# Altium footprint library PQFP.PcbLib: 12 footprints
Each footprint in its own frame and in the unit in brackets; x right, y up, seen from the top. Pads: shape width x height; smd on the part's side, far side on the other; paste and mask are expansions set on the pad; w line width, h text height; cw(c..) or ccw(c..) is an arc to the next point about the centre after c.
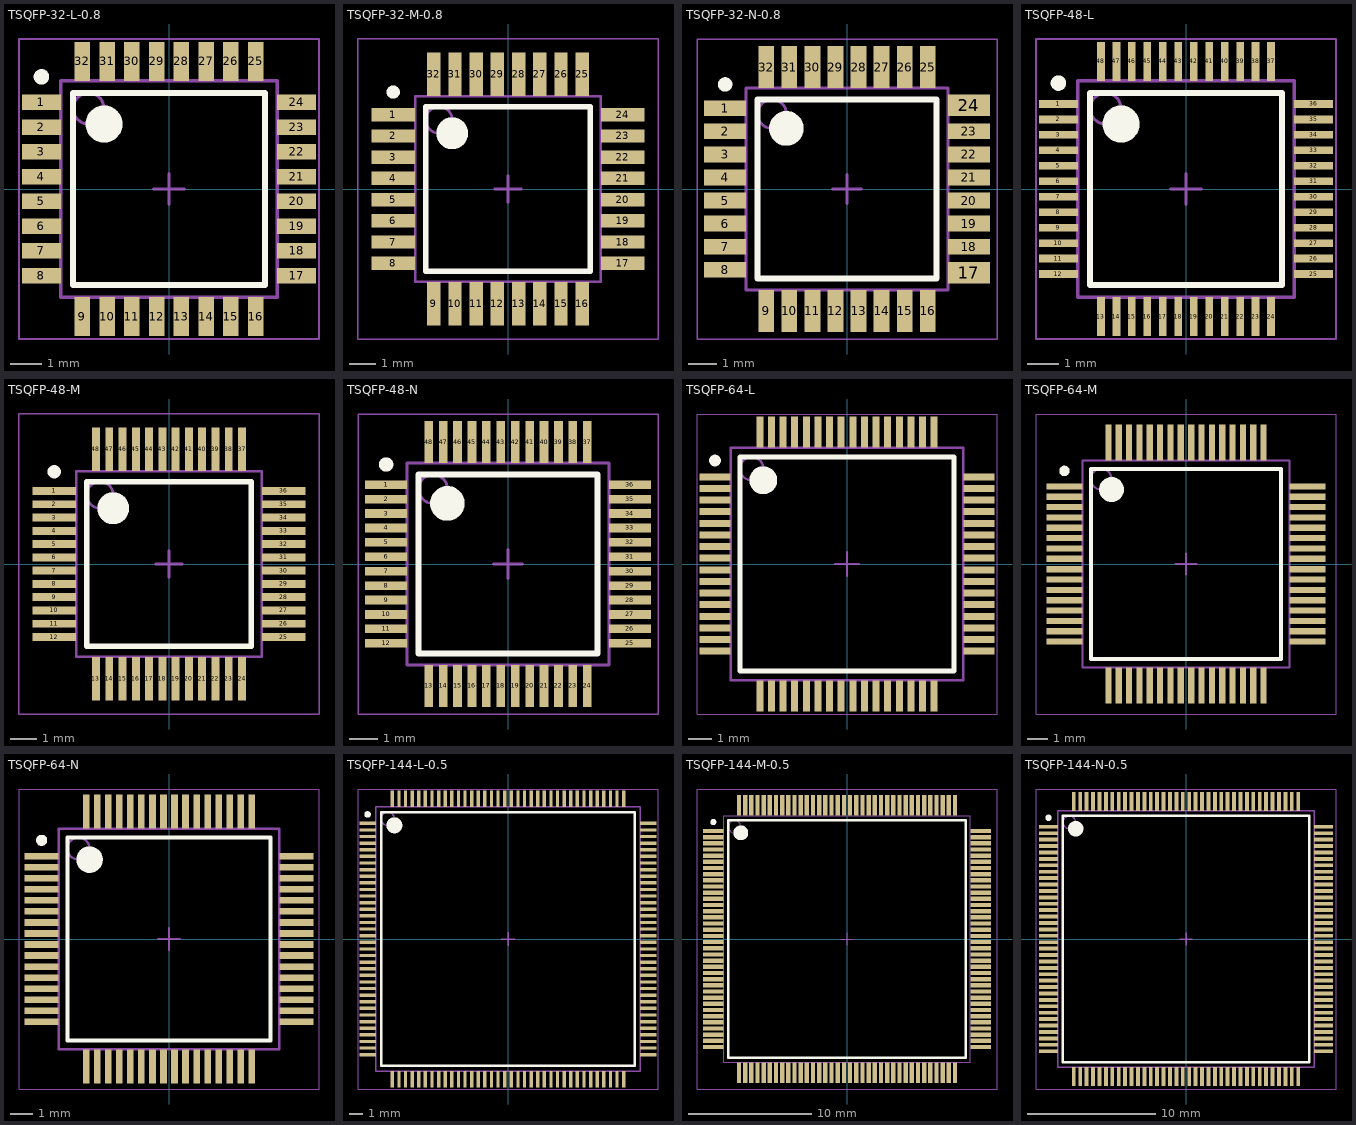
[diagram p0: the footprints below, top view; thin cyan lines are the x and y axes]

## TSQFP-32-L-0.8 [mm] "TQFP, 32-Leads, Body 7.00x7.00mm, Pitch 0.80mm, IPC High Density"
height 1.6
pads (32):
  rect 1.25x0.5 smd: 1(-4.125,2.8) 2(-4.125,2) 3(-4.125,1.2) 4(-4.125,0.4) 5(-4.125,-0.4) 6(-4.125,-1.2) 7(-4.125,-2) 8(-4.125,-2.8) 17(4.125,-2.8) 18(4.125,-2) 19(4.125,-1.2) 20(4.125,-0.4) 21(4.125,0.4) 22(4.125,1.2) 23(4.125,2) 24(4.125,2.8)
  rect 0.5x1.25 smd: 9(-2.8,-4.125) 10(-2,-4.125) 11(-1.2,-4.125) 12(-0.4,-4.125) 13(0.4,-4.125) 14(1.2,-4.125) 15(2,-4.125) 16(2.8,-4.125) 25(2.8,4.125) 26(2,4.125) 27(1.2,4.125) 28(0.4,4.125) 29(-0.4,4.125) 30(-1.2,4.125) 31(-2,4.125) 32(-2.8,4.125)
Top Overlay:
  circle w0.6: c-2.1,2.1 r0.3
  circle w0.25: c-4.125,3.625 r0.125
  lines w0.2: -3.1,-3.1 3.1,-3.1 3.1,3.1 -3.1,3.1 -3.1,-3.1
Mechanical 13:
  circle w0.1: c-2.6,2.6 r0.5
  lines w0.1: -3.5,-3.5 3.5,-3.5 3.5,3.5 -3.5,3.5 -3.5,-3.5
Mechanical 15:
  lines w0.05: -4.85,-4.85 4.85,-4.85 4.85,4.85 -4.85,4.85 -4.85,-4.85
  lines w0.1: -0.5,0 0.5,0 ; 0,-0.5 0,0.5
3D body "TQFP80P900X900X160-32L.step": height 1.6, standoff 0, extent -4.5,-4.5 4.5,4.5

## TSQFP-32-M-0.8 [mm] "TQFP, 32-Leads, Body 7.00x7.00mm, Pitch 0.80mm, IPC Low Density"
height 1.6
pads (32):
  rect 1.65x0.5 smd: 1(-4.325,2.8) 2(-4.325,2) 3(-4.325,1.2) 4(-4.325,0.4) 5(-4.325,-0.4) 6(-4.325,-1.2) 7(-4.325,-2) 8(-4.325,-2.8) 17(4.325,-2.8) 18(4.325,-2) 19(4.325,-1.2) 20(4.325,-0.4) 21(4.325,0.4) 22(4.325,1.2) 23(4.325,2) 24(4.325,2.8)
  rect 0.5x1.65 smd: 9(-2.8,-4.325) 10(-2,-4.325) 11(-1.2,-4.325) 12(-0.4,-4.325) 13(0.4,-4.325) 14(1.2,-4.325) 15(2,-4.325) 16(2.8,-4.325) 25(2.8,4.325) 26(2,4.325) 27(1.2,4.325) 28(0.4,4.325) 29(-0.4,4.325) 30(-1.2,4.325) 31(-2,4.325) 32(-2.8,4.325)
Top Overlay:
  circle w0.25: c-4.325,3.65 r0.125
  circle w0.6: c-2.1,2.1 r0.3
  lines w0.2: -3.1,-3.1 -3.1,3.1 3.1,3.1 3.1,-3.1 -3.1,-3.1
Mechanical 13:
  circle w0.1: c-2.6,2.6 r0.5
  lines w0.1: -3.5,-3.5 -3.5,3.5 3.5,3.5 3.5,-3.5 -3.5,-3.5
Mechanical 15:
  lines w0.05: -5.65,-5.65 -5.65,5.65 5.65,5.65 5.65,-5.65 -5.65,-5.65
  lines w0.1: -0.5,0 0.5,0 ; 0,-0.5 0,0.5
3D body "TQFP80P900X900X160-32M.step": height 1.6, standoff 0, extent -4.5,-4.5 4.5,4.5

## TSQFP-32-N-0.8 [mm] "TQFP, 32-Leads, Body 7.00x7.00mm, Pitch 0.80mm, IPC Medium Density"
height 1.6
pads (32):
  rect 1.45x0.55 smd: 1(-4.225,2.8) 2(-4.225,2) 3(-4.225,1.2) 4(-4.225,0.4) 5(-4.225,-0.4) 6(-4.225,-1.2) 7(-4.225,-2) 8(-4.225,-2.8) 18(4.225,-2) 19(4.225,-1.2) 20(4.225,-0.4) 21(4.225,0.4) 22(4.225,1.2) 23(4.225,2)
  rect 0.55x1.45 smd: 9(-2.8,-4.225) 10(-2,-4.225) 11(-1.2,-4.225) 12(-0.4,-4.225) 13(0.4,-4.225) 14(1.2,-4.225) 15(2,-4.225) 16(2.8,-4.225) 25(2.8,4.225) 26(2,4.225) 27(1.2,4.225) 28(0.4,4.225) 29(-0.4,4.225) 30(-1.2,4.225) 31(-2,4.225) 32(-2.8,4.225)
  rect 1.45x0.75 smd: 17(4.225,-2.9) 24(4.225,2.9)
Top Overlay:
  circle w0.6: c-2.1,2.1 r0.3
  circle w0.25: c-4.225,3.625 r0.125
  lines w0.2: -3.1,-3.1 3.1,-3.1 3.1,3.1 -3.1,3.1 -3.1,-3.1
Mechanical 13:
  circle w0.1: c-2.6,2.6 r0.5
  lines w0.1: -3.5,-3.5 3.5,-3.5 3.5,3.5 -3.5,3.5 -3.5,-3.5
Mechanical 15:
  lines w0.05: -5.2,-5.2 5.2,-5.2 5.2,5.2 -5.2,5.2 -5.2,-5.2
  lines w0.1: -0.5,0 0.5,0 ; 0,-0.5 0,0.5
3D body "TQFP80P900X900X160-32N.step": height 1.6, standoff 0, extent -4.5,-4.5 4.5,4.5

## TSQFP-48-L [mm] "TSQFP, 48-Leads, Body 7.00x7.00mm, Pitch 0.50mm, IPC High Density"
height 1.6
pads (48):
  rect 1.25x0.25 smd: 1(-4.125,2.75) 2(-4.125,2.25) 3(-4.125,1.75) 4(-4.125,1.25) 5(-4.125,0.75) 6(-4.125,0.25) 7(-4.125,-0.25) 8(-4.125,-0.75) 9(-4.125,-1.25) 10(-4.125,-1.75) 11(-4.125,-2.25) 12(-4.125,-2.75) 25(4.125,-2.75) 26(4.125,-2.25) 27(4.125,-1.75) 28(4.125,-1.25) 29(4.125,-0.75) 30(4.125,-0.25) 31(4.125,0.25) 32(4.125,0.75) 33(4.125,1.25) 34(4.125,1.75) 35(4.125,2.25) 36(4.125,2.75)
  rect 0.25x1.25 smd: 13(-2.75,-4.125) 14(-2.25,-4.125) 15(-1.75,-4.125) 16(-1.25,-4.125) 17(-0.75,-4.125) 18(-0.25,-4.125) 19(0.25,-4.125) 20(0.75,-4.125) 21(1.25,-4.125) 22(1.75,-4.125) 23(2.25,-4.125) 24(2.75,-4.125) 37(2.75,4.125) 38(2.25,4.125) 39(1.75,4.125) 40(1.25,4.125) 41(0.75,4.125) 42(0.25,4.125) 43(-0.25,4.125) 44(-0.75,4.125) 45(-1.25,4.125) 46(-1.75,4.125) 47(-2.25,4.125) 48(-2.75,4.125)
Top Overlay:
  circle w0.6: c-2.1,2.1 r0.3
  circle w0.25: c-4.125,3.425 r0.125
  lines w0.2: -3.1,-3.1 3.1,-3.1 3.1,3.1 -3.1,3.1 -3.1,-3.1
Mechanical 13:
  circle w0.1: c-2.6,2.6 r0.5
  lines w0.1: -3.5,-3.5 3.5,-3.5 3.5,3.5 -3.5,3.5 -3.5,-3.5
Mechanical 15:
  lines w0.05: -4.85,-4.85 4.85,-4.85 4.85,4.85 -4.85,4.85 -4.85,-4.85
  lines w0.1: -0.5,0 0.5,0 ; 0,-0.5 0,0.5
3D body "TSQFP-48-L.step": height 1.6, standoff 0, extent -4.5,-4.5 4.5,4.5

## TSQFP-48-M [mm] "TSQFP, 48-Leads, Body 7.00x7.00mm, Pitch 0.50mm, IPC Low Density"
height 1.6
pads (48):
  rect 1.65x0.3 smd: 1(-4.325,2.75) 2(-4.325,2.25) 3(-4.325,1.75) 4(-4.325,1.25) 5(-4.325,0.75) 6(-4.325,0.25) 7(-4.325,-0.25) 8(-4.325,-0.75) 9(-4.325,-1.25) 10(-4.325,-1.75) 11(-4.325,-2.25) 12(-4.325,-2.75) 25(4.325,-2.75) 26(4.325,-2.25) 27(4.325,-1.75) 28(4.325,-1.25) 29(4.325,-0.75) 30(4.325,-0.25) 31(4.325,0.25) 32(4.325,0.75) 33(4.325,1.25) 34(4.325,1.75) 35(4.325,2.25) 36(4.325,2.75)
  rect 0.3x1.65 smd: 13(-2.75,-4.325) 14(-2.25,-4.325) 15(-1.75,-4.325) 16(-1.25,-4.325) 17(-0.75,-4.325) 18(-0.25,-4.325) 19(0.25,-4.325) 20(0.75,-4.325) 21(1.25,-4.325) 22(1.75,-4.325) 23(2.25,-4.325) 24(2.75,-4.325) 37(2.75,4.325) 38(2.25,4.325) 39(1.75,4.325) 40(1.25,4.325) 41(0.75,4.325) 42(0.25,4.325) 43(-0.25,4.325) 44(-0.75,4.325) 45(-1.25,4.325) 46(-1.75,4.325) 47(-2.25,4.325) 48(-2.75,4.325)
Top Overlay:
  circle w0.6: c-2.1,2.1 r0.3
  circle w0.25: c-4.325,3.475 r0.125
  lines w0.2: -3.1,-3.1 3.1,-3.1 3.1,3.1 -3.1,3.1 -3.1,-3.1
Mechanical 13:
  circle w0.1: c-2.6,2.6 r0.5
  lines w0.1: -3.5,-3.5 3.5,-3.5 3.5,3.5 -3.5,3.5 -3.5,-3.5
Mechanical 15:
  lines w0.05: -5.65,-5.65 5.65,-5.65 5.65,5.65 -5.65,5.65 -5.65,-5.65
  lines w0.1: -0.5,0 0.5,0 ; 0,-0.5 0,0.5
3D body "TSQFP-48-M.step": height 1.6, standoff 0, extent -4.5,-4.5 4.5,4.5

## TSQFP-48-N [mm] "TSQFP, 48-Leads, Body 7.00x7.00mm, Pitch 0.50mm, IPC Medium Density"
height 1.6
pads (48):
  rect 1.45x0.3 smd: 1(-4.225,2.75) 2(-4.225,2.25) 3(-4.225,1.75) 4(-4.225,1.25) 5(-4.225,0.75) 6(-4.225,0.25) 7(-4.225,-0.25) 8(-4.225,-0.75) 9(-4.225,-1.25) 10(-4.225,-1.75) 11(-4.225,-2.25) 12(-4.225,-2.75) 25(4.225,-2.75) 26(4.225,-2.25) 27(4.225,-1.75) 28(4.225,-1.25) 29(4.225,-0.75) 30(4.225,-0.25) 31(4.225,0.25) 32(4.225,0.75) 33(4.225,1.25) 34(4.225,1.75) 35(4.225,2.25) 36(4.225,2.75)
  rect 0.3x1.45 smd: 13(-2.75,-4.225) 14(-2.25,-4.225) 15(-1.75,-4.225) 16(-1.25,-4.225) 17(-0.75,-4.225) 18(-0.25,-4.225) 19(0.25,-4.225) 20(0.75,-4.225) 21(1.25,-4.225) 22(1.75,-4.225) 23(2.25,-4.225) 24(2.75,-4.225) 37(2.75,4.225) 38(2.25,4.225) 39(1.75,4.225) 40(1.25,4.225) 41(0.75,4.225) 42(0.25,4.225) 43(-0.25,4.225) 44(-0.75,4.225) 45(-1.25,4.225) 46(-1.75,4.225) 47(-2.25,4.225) 48(-2.75,4.225)
Top Overlay:
  circle w0.6: c-2.1,2.1 r0.3
  circle w0.25: c-4.225,3.45 r0.125
  lines w0.2: -3.1,-3.1 3.1,-3.1 3.1,3.1 -3.1,3.1 -3.1,-3.1
Mechanical 13:
  circle w0.1: c-2.6,2.6 r0.5
  lines w0.1: -3.5,-3.5 3.5,-3.5 3.5,3.5 -3.5,3.5 -3.5,-3.5
Mechanical 15:
  lines w0.05: -5.2,-5.2 5.2,-5.2 5.2,5.2 -5.2,5.2 -5.2,-5.2
  lines w0.1: -0.5,0 0.5,0 ; 0,-0.5 0,0.5
3D body "TSQFP-48-N.step": height 1.6, standoff 0, extent -4.5,-4.5 4.5,4.5

## TSQFP-64-L [mm] "TSQFP, 64-Leads, Body 10,00x10,00mm, Pitch 0,50mm, IPC High Density"
height 1.6
pads (64):
  rect 1.35x0.3 smd: 1(-5.675,3.75) 2(-5.675,3.25) 3(-5.675,2.75) 4(-5.675,2.25) 5(-5.675,1.75) 6(-5.675,1.25) 7(-5.675,0.75) 8(-5.675,0.25) 9(-5.675,-0.25) 10(-5.675,-0.75) 11(-5.675,-1.25) 12(-5.675,-1.75) 13(-5.675,-2.25) 14(-5.675,-2.75) 15(-5.675,-3.25) 16(-5.675,-3.75) 33(5.675,-3.75) 34(5.675,-3.25) 35(5.675,-2.75) 36(5.675,-2.25) 37(5.675,-1.75) 38(5.675,-1.25) 39(5.675,-0.75) 40(5.675,-0.25) 41(5.675,0.25) 42(5.675,0.75) 43(5.675,1.25) 44(5.675,1.75) 45(5.675,2.25) 46(5.675,2.75) 47(5.675,3.25) 48(5.675,3.75)
  rect 0.3x1.35 smd: 17(-3.75,-5.675) 18(-3.25,-5.675) 19(-2.75,-5.675) 20(-2.25,-5.675) 21(-1.75,-5.675) 22(-1.25,-5.675) 23(-0.75,-5.675) 24(-0.25,-5.675) 25(0.25,-5.675) 26(0.75,-5.675) 27(1.25,-5.675) 28(1.75,-5.675) 29(2.25,-5.675) 30(2.75,-5.675) 31(3.25,-5.675) 32(3.75,-5.675) 49(3.75,5.675) 50(3.25,5.675) 51(2.75,5.675) 52(2.25,5.675) 53(1.75,5.675) 54(1.25,5.675) 55(0.75,5.675) 56(0.25,5.675) 57(-0.25,5.675) 58(-0.75,5.675) 59(-1.25,5.675) 60(-1.75,5.675) 61(-2.25,5.675) 62(-2.75,5.675) 63(-3.25,5.675) 64(-3.75,5.675)
Top Overlay:
  circle w0.6: c-3.6,3.6 r0.3
  circle w0.25: c-5.675,4.45 r0.125
  lines w0.2: -4.6,-4.6 4.6,-4.6 4.6,4.6 -4.6,4.6 -4.6,-4.6
Mechanical 13:
  circle w0.1: c-4.1,4.1 r0.5
  lines w0.1: -5,-5 5,-5 5,5 -5,5 -5,-5
Mechanical 15:
  lines w0.05: -6.45,-6.45 6.45,-6.45 6.45,6.45 -6.45,6.45 -6.45,-6.45
  lines w0.1: -0.5,0 0.5,0 ; 0,-0.5 0,0.5
3D body "TSQFP-64-Ll.step": height 1.6, standoff 0, extent -6.1,-6.1 6.1,6.1

## TSQFP-64-M [mm] "TSQFP, 64-Leads, Body 10,00x10,00mm, Pitch 0,50mm, IPC Low Density"
height 1.6
pads (64):
  rect 1.75x0.3 smd: 1(-5.875,3.75) 2(-5.875,3.25) 3(-5.875,2.75) 4(-5.875,2.25) 5(-5.875,1.75) 6(-5.875,1.25) 7(-5.875,0.75) 8(-5.875,0.25) 9(-5.875,-0.25) 10(-5.875,-0.75) 11(-5.875,-1.25) 12(-5.875,-1.75) 13(-5.875,-2.25) 14(-5.875,-2.75) 15(-5.875,-3.25) 16(-5.875,-3.75) 33(5.875,-3.75) 34(5.875,-3.25) 35(5.875,-2.75) 36(5.875,-2.25) 37(5.875,-1.75) 38(5.875,-1.25) 39(5.875,-0.75) 40(5.875,-0.25) 41(5.875,0.25) 42(5.875,0.75) 43(5.875,1.25) 44(5.875,1.75) 45(5.875,2.25) 46(5.875,2.75) 47(5.875,3.25) 48(5.875,3.75)
  rect 0.3x1.75 smd: 17(-3.75,-5.875) 18(-3.25,-5.875) 19(-2.75,-5.875) 20(-2.25,-5.875) 21(-1.75,-5.875) 22(-1.25,-5.875) 23(-0.75,-5.875) 24(-0.25,-5.875) 25(0.25,-5.875) 26(0.75,-5.875) 27(1.25,-5.875) 28(1.75,-5.875) 29(2.25,-5.875) 30(2.75,-5.875) 31(3.25,-5.875) 32(3.75,-5.875) 49(3.75,5.875) 50(3.25,5.875) 51(2.75,5.875) 52(2.25,5.875) 53(1.75,5.875) 54(1.25,5.875) 55(0.75,5.875) 56(0.25,5.875) 57(-0.25,5.875) 58(-0.75,5.875) 59(-1.25,5.875) 60(-1.75,5.875) 61(-2.25,5.875) 62(-2.75,5.875) 63(-3.25,5.875) 64(-3.75,5.875)
Top Overlay:
  circle w0.6: c-3.6,3.6 r0.3
  circle w0.25: c-5.875,4.5 r0.125
  lines w0.2: -4.6,-4.6 4.6,-4.6 4.6,4.6 -4.6,4.6 -4.6,-4.6
Mechanical 13:
  circle w0.1: c-4.1,4.1 r0.5
  lines w0.1: -5,-5 5,-5 5,5 -5,5 -5,-5
Mechanical 15:
  lines w0.05: -7.25,-7.25 7.25,-7.25 7.25,7.25 -7.25,7.25 -7.25,-7.25
  lines w0.1: -0.5,0 0.5,0 ; 0,-0.5 0,0.5
3D body "TSQFP-64-L.step": height 1.6, standoff 0, extent -6.1,-6.1 6.1,6.1

## TSQFP-64-N [mm] "TSQFP, 64-Leads, Body 10,00x10,00mm, Pitch 0,50mm, IPC Medium Density"
height 1.6
pads (64):
  rect 1.55x0.3 smd: 1(-5.775,3.75) 2(-5.775,3.25) 3(-5.775,2.75) 4(-5.775,2.25) 5(-5.775,1.75) 6(-5.775,1.25) 7(-5.775,0.75) 8(-5.775,0.25) 9(-5.775,-0.25) 10(-5.775,-0.75) 11(-5.775,-1.25) 12(-5.775,-1.75) 13(-5.775,-2.25) 14(-5.775,-2.75) 15(-5.775,-3.25) 16(-5.775,-3.75) 33(5.775,-3.75) 34(5.775,-3.25) 35(5.775,-2.75) 36(5.775,-2.25) 37(5.775,-1.75) 38(5.775,-1.25) 39(5.775,-0.75) 40(5.775,-0.25) 41(5.775,0.25) 42(5.775,0.75) 43(5.775,1.25) 44(5.775,1.75) 45(5.775,2.25) 46(5.775,2.75) 47(5.775,3.25) 48(5.775,3.75)
  rect 0.3x1.55 smd: 17(-3.75,-5.775) 18(-3.25,-5.775) 19(-2.75,-5.775) 20(-2.25,-5.775) 21(-1.75,-5.775) 22(-1.25,-5.775) 23(-0.75,-5.775) 24(-0.25,-5.775) 25(0.25,-5.775) 26(0.75,-5.775) 27(1.25,-5.775) 28(1.75,-5.775) 29(2.25,-5.775) 30(2.75,-5.775) 31(3.25,-5.775) 32(3.75,-5.775) 49(3.75,5.775) 50(3.25,5.775) 51(2.75,5.775) 52(2.25,5.775) 53(1.75,5.775) 54(1.25,5.775) 55(0.75,5.775) 56(0.25,5.775) 57(-0.25,5.775) 58(-0.75,5.775) 59(-1.25,5.775) 60(-1.75,5.775) 61(-2.25,5.775) 62(-2.75,5.775) 63(-3.25,5.775) 64(-3.75,5.775)
Top Overlay:
  circle w0.6: c-3.6,3.6 r0.3
  circle w0.25: c-5.775,4.475 r0.125
  lines w0.2: -4.6,-4.6 4.6,-4.6 4.6,4.6 -4.6,4.6 -4.6,-4.6
Mechanical 13:
  circle w0.1: c-4.1,4.1 r0.5
  lines w0.1: -5,-5 5,-5 5,5 -5,5 -5,-5
Mechanical 15:
  lines w0.05: -6.8,-6.8 6.8,-6.8 6.8,6.8 -6.8,6.8 -6.8,-6.8
  lines w0.1: -0.5,0 0.5,0 ; 0,-0.5 0,0.5
3D body "TSQFP-64-N.step": height 1.6, standoff 0, extent -6.1,-6.1 6.1,6.1

## TSQFP-144-L-0.5 [mm] "TSQFP, 144-Leads, Body 20.00x20.00mm, Pitch 0.50mm, IPC High Density"
height 1.6
pads (144):
  rect 1.25x0.25 smd: 1(-10.625,8.75) 2(-10.625,8.25) 3(-10.625,7.75) 4(-10.625,7.25) 5(-10.625,6.75) 6(-10.625,6.25) 7(-10.625,5.75) 8(-10.625,5.25) 9(-10.625,4.75) 10(-10.625,4.25) 11(-10.625,3.75) 12(-10.625,3.25) 13(-10.625,2.75) 14(-10.625,2.25) 15(-10.625,1.75) 16(-10.625,1.25) 17(-10.625,0.75) 18(-10.625,0.25) 19(-10.625,-0.25) 20(-10.625,-0.75) 21(-10.625,-1.25) 22(-10.625,-1.75) 23(-10.625,-2.25) 24(-10.625,-2.75) 25(-10.625,-3.25) 26(-10.625,-3.75) 27(-10.625,-4.25) 28(-10.625,-4.75) 29(-10.625,-5.25) 30(-10.625,-5.75) 31(-10.625,-6.25) 32(-10.625,-6.75) 33(-10.625,-7.25) 34(-10.625,-7.75) 35(-10.625,-8.25) 36(-10.625,-8.75) 73(10.625,-8.75) 74(10.625,-8.25) 75(10.625,-7.75) 76(10.625,-7.25) 77(10.625,-6.75) 78(10.625,-6.25) 79(10.625,-5.75) 80(10.625,-5.25) 81(10.625,-4.75) 82(10.625,-4.25) 83(10.625,-3.75) 84(10.625,-3.25) 85(10.625,-2.75) 86(10.625,-2.25) 87(10.625,-1.75) 88(10.625,-1.25) 89(10.625,-0.75) 90(10.625,-0.25) 91(10.625,0.25) 92(10.625,0.75) 93(10.625,1.25) 94(10.625,1.75) 95(10.625,2.25) 96(10.625,2.75) 97(10.625,3.25) 98(10.625,3.75) 99(10.625,4.25) 100(10.625,4.75) 101(10.625,5.25) 102(10.625,5.75) 103(10.625,6.25) 104(10.625,6.75) 105(10.625,7.25) 106(10.625,7.75) 107(10.625,8.25) 108(10.625,8.75)
  rect 0.25x1.25 smd: 37(-8.75,-10.625) 38(-8.25,-10.625) 39(-7.75,-10.625) 40(-7.25,-10.625) 41(-6.75,-10.625) 42(-6.25,-10.625) 43(-5.75,-10.625) 44(-5.25,-10.625) 45(-4.75,-10.625) 46(-4.25,-10.625) 47(-3.75,-10.625) 48(-3.25,-10.625) 49(-2.75,-10.625) 50(-2.25,-10.625) 51(-1.75,-10.625) 52(-1.25,-10.625) 53(-0.75,-10.625) 54(-0.25,-10.625) 55(0.25,-10.625) 56(0.75,-10.625) 57(1.25,-10.625) 58(1.75,-10.625) 59(2.25,-10.625) 60(2.75,-10.625) 61(3.25,-10.625) 62(3.75,-10.625) 63(4.25,-10.625) 64(4.75,-10.625) 65(5.25,-10.625) 66(5.75,-10.625) 67(6.25,-10.625) 68(6.75,-10.625) 69(7.25,-10.625) 70(7.75,-10.625) 71(8.25,-10.625) 72(8.75,-10.625) 109(8.75,10.625) 110(8.25,10.625) 111(7.75,10.625) 112(7.25,10.625) 113(6.75,10.625) 114(6.25,10.625) 115(5.75,10.625) 116(5.25,10.625) 117(4.75,10.625) 118(4.25,10.625) 119(3.75,10.625) 120(3.25,10.625) 121(2.75,10.625) 122(2.25,10.625) 123(1.75,10.625) 124(1.25,10.625) 125(0.75,10.625) 126(0.25,10.625) 127(-0.25,10.625) 128(-0.75,10.625) 129(-1.25,10.625) 130(-1.75,10.625) 131(-2.25,10.625) 132(-2.75,10.625) 133(-3.25,10.625) 134(-3.75,10.625) 135(-4.25,10.625) 136(-4.75,10.625) 137(-5.25,10.625) 138(-5.75,10.625) 139(-6.25,10.625) 140(-6.75,10.625) 141(-7.25,10.625) 142(-7.75,10.625) 143(-8.25,10.625) 144(-8.75,10.625)
Top Overlay:
  circle w0.25: c-10.625,9.425 r0.125
  circle w0.6: c-8.6,8.6 r0.3
  lines w0.2: -9.6,-9.6 -9.6,9.6 9.6,9.6 9.6,-9.6 -9.6,-9.6
Mechanical 13:
  circle w0.1: c-9.1,9.1 r0.5
  lines w0.1: -10,-10 -10,10 10,10 10,-10 -10,-10
Mechanical 15:
  lines w0.05: -11.35,-11.35 -11.35,11.35 11.35,11.35 11.35,-11.35 -11.35,-11.35
  lines w0.1: -0.5,0 0.5,0 ; 0,-0.5 0,0.5
3D body "TSQFP-144-L-0.5.step": height 1.6, standoff 0, extent -11,-11 11,11

## TSQFP-144-M-0.5 [mm] "TSQFP, 144-Leads, Body 20.00x20.00mm, Pitch 0.50mm, IPC Low Density"
height 1.6
pads (144):
  rect 1.65x0.35 smd: 1(-10.825,8.75) 2(-10.825,8.25) 3(-10.825,7.75) 4(-10.825,7.25) 5(-10.825,6.75) 6(-10.825,6.25) 7(-10.825,5.75) 8(-10.825,5.25) 9(-10.825,4.75) 10(-10.825,4.25) 11(-10.825,3.75) 12(-10.825,3.25) 13(-10.825,2.75) 14(-10.825,2.25) 15(-10.825,1.75) 16(-10.825,1.25) 17(-10.825,0.75) 18(-10.825,0.25) 19(-10.825,-0.25) 20(-10.825,-0.75) 21(-10.825,-1.25) 22(-10.825,-1.75) 23(-10.825,-2.25) 24(-10.825,-2.75) 25(-10.825,-3.25) 26(-10.825,-3.75) 27(-10.825,-4.25) 28(-10.825,-4.75) 29(-10.825,-5.25) 30(-10.825,-5.75) 31(-10.825,-6.25) 32(-10.825,-6.75) 33(-10.825,-7.25) 34(-10.825,-7.75) 35(-10.825,-8.25) 36(-10.825,-8.75) 73(10.825,-8.75) 74(10.825,-8.25) 75(10.825,-7.75) 76(10.825,-7.25) 77(10.825,-6.75) 78(10.825,-6.25) 79(10.825,-5.75) 80(10.825,-5.25) 81(10.825,-4.75) 82(10.825,-4.25) 83(10.825,-3.75) 84(10.825,-3.25) 85(10.825,-2.75) 86(10.825,-2.25) 87(10.825,-1.75) 88(10.825,-1.25) 89(10.825,-0.75) 90(10.825,-0.25) 91(10.825,0.25) 92(10.825,0.75) 93(10.825,1.25) 94(10.825,1.75) 95(10.825,2.25) 96(10.825,2.75) 97(10.825,3.25) 98(10.825,3.75) 99(10.825,4.25) 100(10.825,4.75) 101(10.825,5.25) 102(10.825,5.75) 103(10.825,6.25) 104(10.825,6.75) 105(10.825,7.25) 106(10.825,7.75) 107(10.825,8.25) 108(10.825,8.75)
  rect 0.35x1.65 smd: 37(-8.75,-10.825) 38(-8.25,-10.825) 39(-7.75,-10.825) 40(-7.25,-10.825) 41(-6.75,-10.825) 42(-6.25,-10.825) 43(-5.75,-10.825) 44(-5.25,-10.825) 45(-4.75,-10.825) 46(-4.25,-10.825) 47(-3.75,-10.825) 48(-3.25,-10.825) 49(-2.75,-10.825) 50(-2.25,-10.825) 51(-1.75,-10.825) 52(-1.25,-10.825) 53(-0.75,-10.825) 54(-0.25,-10.825) 55(0.25,-10.825) 56(0.75,-10.825) 57(1.25,-10.825) 58(1.75,-10.825) 59(2.25,-10.825) 60(2.75,-10.825) 61(3.25,-10.825) 62(3.75,-10.825) 63(4.25,-10.825) 64(4.75,-10.825) 65(5.25,-10.825) 66(5.75,-10.825) 67(6.25,-10.825) 68(6.75,-10.825) 69(7.25,-10.825) 70(7.75,-10.825) 71(8.25,-10.825) 72(8.75,-10.825) 109(8.75,10.825) 110(8.25,10.825) 111(7.75,10.825) 112(7.25,10.825) 113(6.75,10.825) 114(6.25,10.825) 115(5.75,10.825) 116(5.25,10.825) 117(4.75,10.825) 118(4.25,10.825) 119(3.75,10.825) 120(3.25,10.825) 121(2.75,10.825) 122(2.25,10.825) 123(1.75,10.825) 124(1.25,10.825) 125(0.75,10.825) 126(0.25,10.825) 127(-0.25,10.825) 128(-0.75,10.825) 129(-1.25,10.825) 130(-1.75,10.825) 131(-2.25,10.825) 132(-2.75,10.825) 133(-3.25,10.825) 134(-3.75,10.825) 135(-4.25,10.825) 136(-4.75,10.825) 137(-5.25,10.825) 138(-5.75,10.825) 139(-6.25,10.825) 140(-6.75,10.825) 141(-7.25,10.825) 142(-7.75,10.825) 143(-8.25,10.825) 144(-8.75,10.825)
Top Overlay:
  circle w0.6: c-8.6,8.6 r0.3
  circle w0.25: c-10.825,9.475 r0.125
  lines w0.2: -9.6,-9.6 9.6,-9.6 9.6,9.6 -9.6,9.6 -9.6,-9.6
Mechanical 13:
  circle w0.1: c-9.1,9.1 r0.5
  lines w0.1: -10,-10 10,-10 10,10 -10,10 -10,-10
Mechanical 15:
  lines w0.05: -12.15,-12.15 12.15,-12.15 12.15,12.15 -12.15,12.15 -12.15,-12.15
  lines w0.1: -0.5,0 0.5,0 ; 0,-0.5 0,0.5
3D body "TSQFP-144-M-0.5.step": height 1.6, standoff 0, extent -11,-11 11,11

## TSQFP-144-N-0.5 [mm] "TSQFP, 144-Leads, Body 20.00x20.00mm, Pitch 0.50mm, IPC Medium Density"
height 1.6
pads (144):
  rect 1.45x0.3 smd: 1(-10.725,8.75) 2(-10.725,8.25) 3(-10.725,7.75) 4(-10.725,7.25) 5(-10.725,6.75) 6(-10.725,6.25) 7(-10.725,5.75) 8(-10.725,5.25) 9(-10.725,4.75) 10(-10.725,4.25) 11(-10.725,3.75) 12(-10.725,3.25) 13(-10.725,2.75) 14(-10.725,2.25) 15(-10.725,1.75) 16(-10.725,1.25) 17(-10.725,0.75) 18(-10.725,0.25) 19(-10.725,-0.25) 20(-10.725,-0.75) 21(-10.725,-1.25) 22(-10.725,-1.75) 23(-10.725,-2.25) 24(-10.725,-2.75) 25(-10.725,-3.25) 26(-10.725,-3.75) 27(-10.725,-4.25) 28(-10.725,-4.75) 29(-10.725,-5.25) 30(-10.725,-5.75) 31(-10.725,-6.25) 32(-10.725,-6.75) 33(-10.725,-7.25) 34(-10.725,-7.75) 35(-10.725,-8.25) 36(-10.725,-8.75) 73(10.725,-8.75) 74(10.725,-8.25) 75(10.725,-7.75) 76(10.725,-7.25) 77(10.725,-6.75) 78(10.725,-6.25) 79(10.725,-5.75) 80(10.725,-5.25) 81(10.725,-4.75) 82(10.725,-4.25) 83(10.725,-3.75) 84(10.725,-3.25) 85(10.725,-2.75) 86(10.725,-2.25) 87(10.725,-1.75) 88(10.725,-1.25) 89(10.725,-0.75) 90(10.725,-0.25) 91(10.725,0.25) 92(10.725,0.75) 93(10.725,1.25) 94(10.725,1.75) 95(10.725,2.25) 96(10.725,2.75) 97(10.725,3.25) 98(10.725,3.75) 99(10.725,4.25) 100(10.725,4.75) 101(10.725,5.25) 102(10.725,5.75) 103(10.725,6.25) 104(10.725,6.75) 105(10.725,7.25) 106(10.725,7.75) 107(10.725,8.25) 108(10.725,8.75)
  rect 0.3x1.45 smd: 37(-8.75,-10.725) 38(-8.25,-10.725) 39(-7.75,-10.725) 40(-7.25,-10.725) 41(-6.75,-10.725) 42(-6.25,-10.725) 43(-5.75,-10.725) 44(-5.25,-10.725) 45(-4.75,-10.725) 46(-4.25,-10.725) 47(-3.75,-10.725) 48(-3.25,-10.725) 49(-2.75,-10.725) 50(-2.25,-10.725) 51(-1.75,-10.725) 52(-1.25,-10.725) 53(-0.75,-10.725) 54(-0.25,-10.725) 55(0.25,-10.725) 56(0.75,-10.725) 57(1.25,-10.725) 58(1.75,-10.725) 59(2.25,-10.725) 60(2.75,-10.725) 61(3.25,-10.725) 62(3.75,-10.725) 63(4.25,-10.725) 64(4.75,-10.725) 65(5.25,-10.725) 66(5.75,-10.725) 67(6.25,-10.725) 68(6.75,-10.725) 69(7.25,-10.725) 70(7.75,-10.725) 71(8.25,-10.725) 72(8.75,-10.725) 109(8.75,10.725) 110(8.25,10.725) 111(7.75,10.725) 112(7.25,10.725) 113(6.75,10.725) 114(6.25,10.725) 115(5.75,10.725) 116(5.25,10.725) 117(4.75,10.725) 118(4.25,10.725) 119(3.75,10.725) 120(3.25,10.725) 121(2.75,10.725) 122(2.25,10.725) 123(1.75,10.725) 124(1.25,10.725) 125(0.75,10.725) 126(0.25,10.725) 127(-0.25,10.725) 128(-0.75,10.725) 129(-1.25,10.725) 130(-1.75,10.725) 131(-2.25,10.725) 132(-2.75,10.725) 133(-3.25,10.725) 134(-3.75,10.725) 135(-4.25,10.725) 136(-4.75,10.725) 137(-5.25,10.725) 138(-5.75,10.725) 139(-6.25,10.725) 140(-6.75,10.725) 141(-7.25,10.725) 142(-7.75,10.725) 143(-8.25,10.725) 144(-8.75,10.725)
Top Overlay:
  circle w0.6: c-8.6,8.6 r0.3
  circle w0.25: c-10.725,9.45 r0.125
  lines w0.2: -9.6,-9.6 9.6,-9.6 9.6,9.6 -9.6,9.6 -9.6,-9.6
Mechanical 13:
  circle w0.1: c-9.1,9.1 r0.5
  lines w0.1: -10,-10 10,-10 10,10 -10,10 -10,-10
Mechanical 15:
  lines w0.05: -11.7,-11.7 11.7,-11.7 11.7,11.7 -11.7,11.7 -11.7,-11.7
  lines w0.1: -0.5,0 0.5,0 ; 0,-0.5 0,0.5
3D body "TSQFP50P2200X2200X160-144N.step": height 1.6, standoff 0, extent -11,-11 11,11